# EAGLE library part ARDUINO (library Janus-IC)
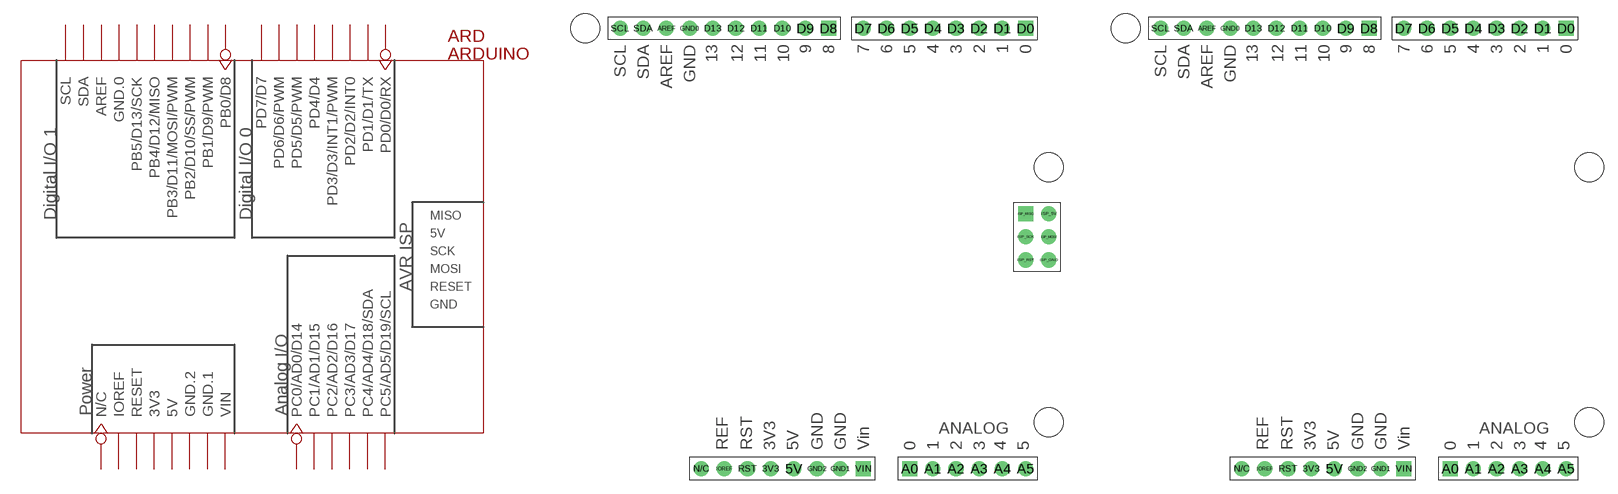
[diagram p3: symbol with the pads of ARDUINO; footprints ARDUINO, ARDUINO_NOISP]

Designator prefix ARD

## ARDUINO  [ARDUINO]
3V3  3V3
5V  5V
A0  PC0/AD0/D14
A1  PC1/AD1/D15
A2  PC2/AD2/D16
A3  PC3/AD3/D17
A4  PC4/AD4/D18/SDA
A5  PC5/AD5/D19/SCL
AREF  AREF
D0  PD0/D0/RX
D1  PD1/D1/TX
D2  PD2/D2/INT0
D3  PD3/D3/INT1/PWM
D4  PD4/D4
D5  PD5/D5/PWM
D6  PD6/D6/PWM
D7  PD7/D7
D8  PB0/D8
D9  PB1/D9/PWM
D10  PB2/D10/SS/PWM
D11  PB3/D11/MOSI/PWM
D12  PB4/D12/MISO
D13  PB5/D13/SCK
GND0  GND.0
GND1  GND.1
GND2  GND.2
IOREF  IOREF
ISP_5V  5V
ISP_GND  GND.0
ISP_MISO  PB4/D12/MISO
ISP_MOSI  PB3/D11/MOSI/PWM
ISP_RST  RESET
ISP_SCK  PB5/D13/SCK
N/C  N/C
RST  RESET
SCL  SCL
SDA  SDA
VIN  VIN

## ARDUINO_NOISP  [ARDUINO_NOISP]
3V3  3V3
5V  5V
A0  PC0/AD0/D14
A1  PC1/AD1/D15
A2  PC2/AD2/D16
A3  PC3/AD3/D17
A4  PC4/AD4/D18/SDA
A5  PC5/AD5/D19/SCL
AREF  AREF
D0  PD0/D0/RX
D1  PD1/D1/TX
D2  PD2/D2/INT0
D3  PD3/D3/INT1/PWM
D4  PD4/D4
D5  PD5/D5/PWM
D6  PD6/D6/PWM
D7  PD7/D7
D8  PB0/D8
D9  PB1/D9/PWM
D10  PB2/D10/SS/PWM
D11  PB3/D11/MOSI/PWM
D12  PB4/D12/MISO
D13  PB5/D13/SCK
GND0  GND.0
GND1  GND.1
GND2  GND.2
IOREF  IOREF
N/C  N/C
RST  RESET
SCL  SCL
SDA  SDA
VIN  VIN

## Footprint ARDUINO (pad centres in mm)
drill 0.889 pad 1.651: 3V3 35.56,-50.8; 5V 38.1,-50.8; A1 53.34,-50.8; A2 55.88,-50.8; A3 58.42,-50.8; A4 60.96,-50.8; A5 63.5,-50.8; AREF 24.13,-2.54; D1 60.96,-2.54; D2 58.42,-2.54; D3 55.88,-2.54; D4 53.34,-2.54; D5 50.8,-2.54; D6 48.26,-2.54; D7 45.72,-2.54; D9 39.37,-2.54; D10 36.83,-2.54; D11 34.29,-2.54; D12 31.75,-2.54; D13 29.21,-2.54; GND0 26.67,-2.54; GND1 43.18,-50.8; GND2 40.64,-50.8; IOREF 30.48,-50.8; ISP_5V 66.04,-22.86; ISP_GND 66.04,-27.94; ISP_MOSI 66.04,-25.4; ISP_RST 63.5,-27.94; ISP_SCK 63.5,-25.4; N/C 27.94,-50.8; RST 33.02,-50.8; SCL 19.05,-2.54; SDA 21.59,-2.54
drill 0.889 pad 1.651 square: A0 50.8,-50.8; D0 63.5,-2.54; D8 41.91,-2.54; ISP_MISO 63.5,-22.86; VIN 45.72,-50.8
hole 3.2 at 15.24,-2.54
hole 3.2 at 66.04,-17.78
hole 3.2 at 66.04,-45.72

## Footprint ARDUINO_NOISP (pad centres in mm)
drill 0.889 pad 1.651: 3V3 35.56,-50.8; 5V 38.1,-50.8; A1 53.34,-50.8; A2 55.88,-50.8; A3 58.42,-50.8; A4 60.96,-50.8; A5 63.5,-50.8; AREF 24.13,-2.54; D1 60.96,-2.54; D2 58.42,-2.54; D3 55.88,-2.54; D4 53.34,-2.54; D5 50.8,-2.54; D6 48.26,-2.54; D7 45.72,-2.54; D9 39.37,-2.54; D10 36.83,-2.54; D11 34.29,-2.54; D12 31.75,-2.54; D13 29.21,-2.54; GND0 26.67,-2.54; GND1 43.18,-50.8; GND2 40.64,-50.8; IOREF 30.48,-50.8; N/C 27.94,-50.8; RST 33.02,-50.8; SCL 19.05,-2.54; SDA 21.59,-2.54
drill 0.889 pad 1.651 square: A0 50.8,-50.8; D0 63.5,-2.54; D8 41.91,-2.54; VIN 45.72,-50.8
hole 3.2 at 15.24,-2.54
hole 3.2 at 66.04,-17.78
hole 3.2 at 66.04,-45.72